# Altium integrated library Avago LED Display 7-Segment, 2-Digit.IntLib: 57 symbols (part 2 of 2)
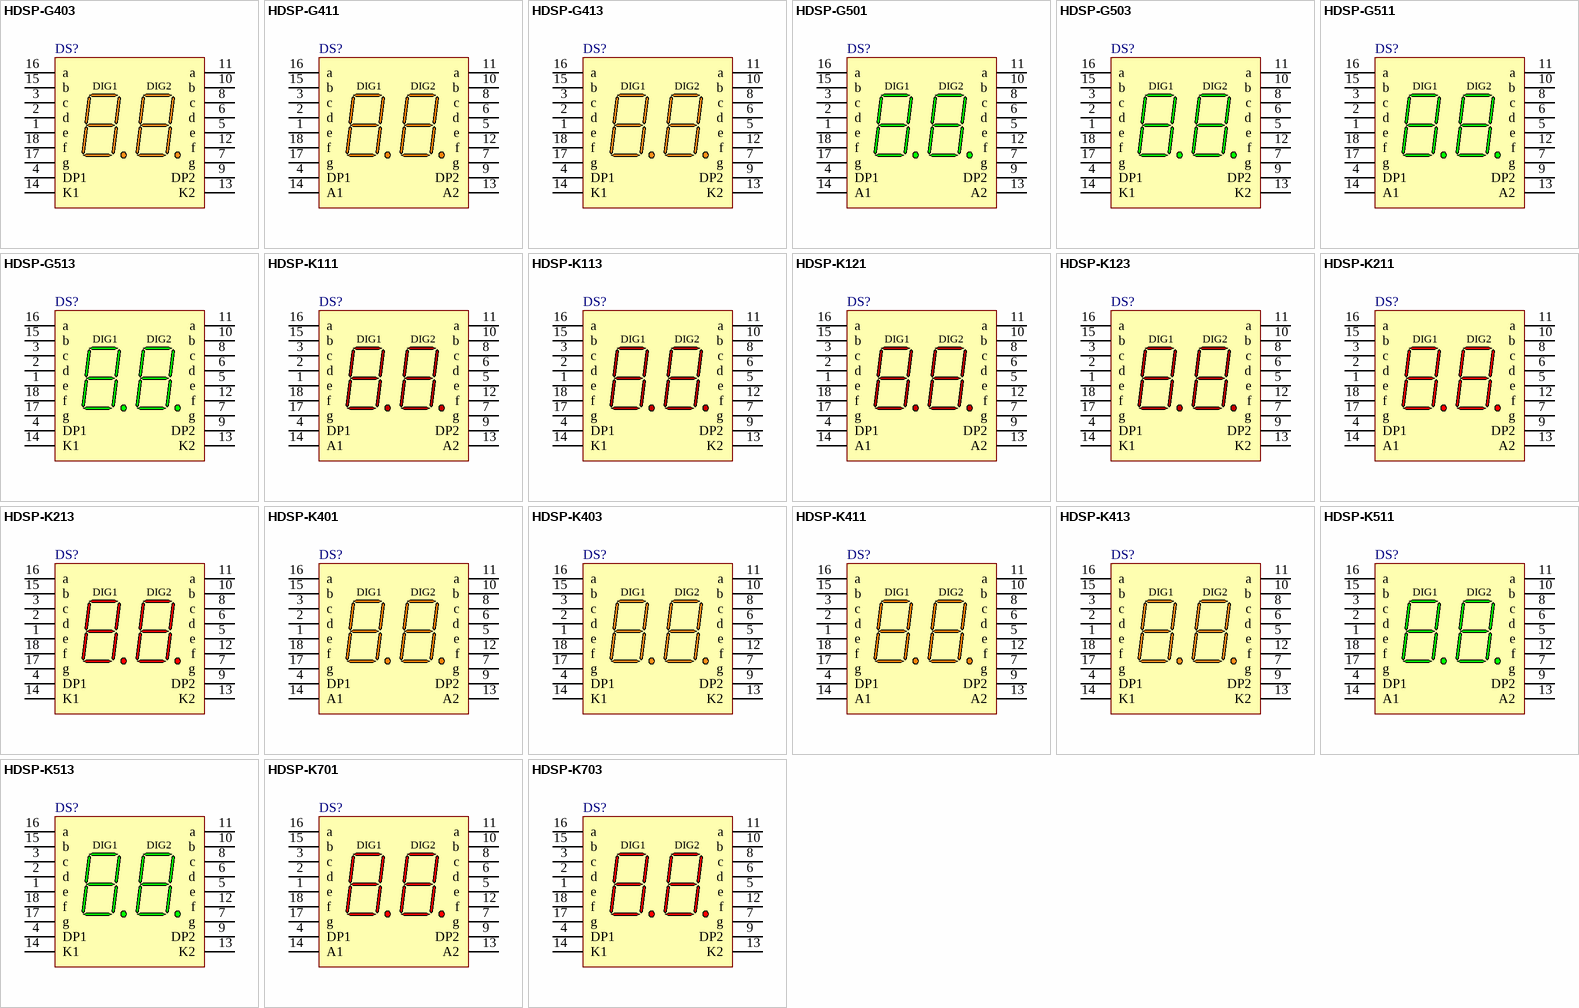
[diagram p2: symbols HDSP-G403 to HDSP-K703]

## HDSP-G503
designator DS?
10.16 mm Gray Package Green 7-Segment Display: 2-Digit, CC, RH DP; Published: 26-May-2004; LatestRevisionDate: 11-Oct-2004; LatestRevisionNote: Display outline superimposed on PCB Footprint.; DatasheetVersion: 26-Jul-2001; PackageVersion: 07-Mar-2002; PackageReference: G-18; Publisher: Altium Limited; PackageDescription: LED, 7-Segment Display, 10.16 mm, Dual Digit; 18 Leads; Row Space 15.24 mm; Pitch 2.54 mm; ComponentLink1Description: Manufacturer Link; ComponentLink1URL: http://www.avagotech.com/; ComponentLink2Description: Datasheet; ComponentLink2URL: http://cp.literature.agilent.com/litweb/pdf/5989-2346EN.pdf
footprint G-18 (LED, 7-Segment Display, 10.16 mm, Dual Digit; 18 Leads; Row Space 15.24 mm; Pitch 2.54 mm)
simulation model HDSP_G503 (SUBCKT)
pins: 1 e "Digit 1 e Anode", 2 d "Digit 1 d Anode", 3 c "Digit 1 c Anode", 4 DP1 "Digit 1 DP Anode", 5 e "Digit 2 e Anode", 6 d "Digit 2 d Anode", 7 g "Digit 2 g Anode", 8 c "Digit 2 c Anode", 9 DP2 "Digit 2 DP Anode", 10 b "Digit 2 b Anode", 11 a "Digit 2 a Anode", 12 f "Digit 2 f Anode", 13 K2 "Digit 2 Common Cathode", 14 K1 "Digit 1 Common Cathode", 15 b "Digit 1 b Anode", 16 a "Digit 1 a Anode", 17 g "Digit 1 g Anode", 18 f "Digit 1 f Anode"
text: DIG1; DIG2

## HDSP-G511
designator DS?
10.16 mm Black Surface Green 7-Segment Display: 2-Digit, CA, RH DP; Published: 26-May-2004; LatestRevisionDate: 11-Oct-2004; LatestRevisionNote: Display outline superimposed on PCB Footprint.; DatasheetVersion: 19-Feb-2002; PackageVersion: 07-Mar-2002; PackageReference: G-18; Publisher: Altium Limited; PackageDescription: LED, 7-Segment Display, 10.16 mm, Dual Digit; 18 Leads; Row Space 15.24 mm; Pitch 2.54 mm; ComponentLink1Description: Manufacturer Link; ComponentLink1URL: http://www.avagotech.com/; ComponentLink2Description: Datasheet; ComponentLink2URL: http://cp.literature.agilent.com/litweb/pdf/5989-2795EN.pdf
footprint G-18 (LED, 7-Segment Display, 10.16 mm, Dual Digit; 18 Leads; Row Space 15.24 mm; Pitch 2.54 mm)
simulation model HDSP_G511 (SUBCKT)
pins: 1 e "Digit 1 e Cathode", 2 d "Digit 1 d Cathode", 3 c "Digit 1 c Cathode", 4 DP1 "Digit 1 DP Cathode", 5 e "Digit 2 e Cathode", 6 d "Digit 2 d Cathode", 7 g "Digit 2 g Cathode", 8 c "Digit 2 c Cathode", 9 DP2 "Digit 2 DP Cathode", 10 b "Digit 2 b Cathode", 11 a "Digit 2 a Cathode", 12 f "Digit 2 f Cathode", 13 A2 "Digit 2 Common Anode", 14 A1 "Digit 1 Common Anode", 15 b "Digit 1 b Cathode", 16 a "Digit 1 a Cathode", 17 g "Digit 1 g Cathode", 18 f "Digit 1 f Cathode"
text: DIG1; DIG2

## HDSP-G513
designator DS?
10.16 mm Black Surface Green 7-Segment Display: 2-Digit, CC, RH DP; Published: 26-May-2004; LatestRevisionDate: 11-Oct-2004; LatestRevisionNote: Display outline superimposed on PCB Footprint.; DatasheetVersion: 19-Feb-2002; PackageVersion: 07-Mar-2002; PackageReference: G-18; Publisher: Altium Limited; PackageDescription: LED, 7-Segment Display, 10.16 mm, Dual Digit; 18 Leads; Row Space 15.24 mm; Pitch 2.54 mm; ComponentLink1Description: Manufacturer Link; ComponentLink1URL: http://www.avagotech.com/; ComponentLink2Description: Datasheet; ComponentLink2URL: http://cp.literature.agilent.com/litweb/pdf/5989-2795EN.pdf
footprint G-18 (LED, 7-Segment Display, 10.16 mm, Dual Digit; 18 Leads; Row Space 15.24 mm; Pitch 2.54 mm)
simulation model HDSP_G513 (SUBCKT)
pins: 1 e "Digit 1 e Anode", 2 d "Digit 1 d Anode", 3 c "Digit 1 c Anode", 4 DP1 "Digit 1 DP Anode", 5 e "Digit 2 e Anode", 6 d "Digit 2 d Anode", 7 g "Digit 2 g Anode", 8 c "Digit 2 c Anode", 9 DP2 "Digit 2 DP Anode", 10 b "Digit 2 b Anode", 11 a "Digit 2 a Anode", 12 f "Digit 2 f Anode", 13 K2 "Digit 2 Common Cathode", 14 K1 "Digit 1 Common Cathode", 15 b "Digit 1 b Anode", 16 a "Digit 1 a Anode", 17 g "Digit 1 g Anode", 18 f "Digit 1 f Anode"
text: DIG1; DIG2

## HDSP-K111
designator DS?
14.22 mm Black Surface AlGaAs Red 7-Segment Display: 2-Digit, CA, RH DP; Published: 26-May-2004; LatestRevisionDate: 11-Oct-2004; LatestRevisionNote: Display outline superimposed on PCB Footprint.; DatasheetVersion: 19-Feb-2002; PackageVersion: 19-Feb-2002; PackageReference: K; Publisher: Altium Limited; PackageDescription: LED, 7-Segment Display, 14.22 mm, Dual Digit; 18 Leads; Row Space 15.24 mm; Pitch 2.54 mm; ComponentLink1Description: Manufacturer Link; ComponentLink1URL: http://www.avagotech.com/; ComponentLink2Description: Datasheet; ComponentLink2URL: http://cp.literature.agilent.com/litweb/pdf/5989-2795EN.pdf
footprint K (LED, 7-Segment Display, 14.22 mm, Dual Digit; 18 Leads; Row Space 15.24 mm; Pitch 2.54 mm)
simulation model HDSP_K111 (SUBCKT)
pins: 1 e "Digit 1 e Cathode", 2 d "Digit 1 d Cathode", 3 c "Digit 1 c Cathode", 4 DP1 "Digit 1 DP Cathode", 5 e "Digit 2 e Cathode", 6 d "Digit 2 d Cathode", 7 g "Digit 2 g Cathode", 8 c "Digit 2 c Cathode", 9 DP2 "Digit 2 DP Cathode", 10 b "Digit 2 b Cathode", 11 a "Digit 2 a Cathode", 12 f "Digit 2 f Cathode", 13 A2 "Digit 2  Common Anode", 14 A1 "Digit 1 Common Anode", 15 b "Digit 1 b Cathode", 16 a "Digit 1 a Cathode", 17 g "Digit 1 g Cathode", 18 f "Digit 1 f Cathode"
text: DIG1; DIG2

## HDSP-K113
designator DS?
14.22 mm Black Surface AlGaAs Red 7-Segment Display: 2-Digit, CC, RH DP; Published: 26-May-2004; LatestRevisionDate: 11-Oct-2004; LatestRevisionNote: Display outline superimposed on PCB Footprint.; DatasheetVersion: 19-Feb-2002; PackageVersion: 19-Feb-2002; PackageReference: K; Publisher: Altium Limited; PackageDescription: LED, 7-Segment Display, 14.22 mm, Dual Digit; 18 Leads; Row Space 15.24 mm; Pitch 2.54 mm; ComponentLink1Description: Manufacturer Link; ComponentLink1URL: http://www.avagotech.com/; ComponentLink2Description: Datasheet; ComponentLink2URL: http://cp.literature.agilent.com/litweb/pdf/5989-2795EN.pdf
footprint K (LED, 7-Segment Display, 14.22 mm, Dual Digit; 18 Leads; Row Space 15.24 mm; Pitch 2.54 mm)
simulation model HDSP_K113 (SUBCKT)
pins: 1 e "Digit 1 e Anode", 2 d "Digit 1 d Anode", 3 c "Digit 1 c Anode", 4 DP1 "Digit 1 DP Anode", 5 e "Digit 2 e Anode", 6 d "Digit 2 d Anode", 7 g "Digit 2 g Anode", 8 c "Digit 2 c Anode", 9 DP2 "Digit 2 DP Anode", 10 b "Digit 2 b Anode", 11 a "Digit 2 a Anode", 12 f "Digit 2 f Anode", 13 K2 "Digit 2 Common Cathode", 14 K1 "Digit 1 Common Cathode", 15 b "Digit 1 b Anode", 16 a "Digit 1 a Anode", 17 g "Digit 1 g Anode", 18 f "Digit 1 f Anode"
text: DIG1; DIG2

## HDSP-K121
designator DS?
14.22 mm Low Current AlGaAs 7-Segment Display: 2-Digit, CA, RH DP; Published: 26-May-2004; LatestRevisionDate: 11-Oct-2004; LatestRevisionNote: Display outline superimposed on PCB Footprint.; DatasheetVersion: 11-Mar-2003; PackageVersion: 19-Feb-2002; PackageReference: K; Publisher: Altium Limited; PackageDescription: LED, 7-Segment Display, 14.22 mm, Dual Digit; 18 Leads; Row Space 15.24 mm; Pitch 2.54 mm; ComponentLink1Description: Manufacturer Link; ComponentLink1URL: http://www.avagotech.com/; ComponentLink2Description: Datasheet; ComponentLink2URL: http://cp.literature.agilent.com/litweb/pdf/5989-2824EN.pdf
footprint K (LED, 7-Segment Display, 14.22 mm, Dual Digit; 18 Leads; Row Space 15.24 mm; Pitch 2.54 mm)
simulation model HDSP_K121 (SUBCKT)
pins: 1 e "Digit 1 e Cathode", 2 d "Digit 1 d Cathode", 3 c "Digit 1 c Cathode", 4 DP1 "Digit 1 DP Cathode", 5 e "Digit 2 e Cathode", 6 d "Digit 2 d Cathode", 7 g "Digit 2 g Cathode", 8 c "Digit 2 c Cathode", 9 DP2 "Digit 2 DP Cathode", 10 b "Digit 2 b Cathode", 11 a "Digit 2 a Cathode", 12 f "Digit 2 f Cathode", 13 A2 "Digit 2 Common Anode", 14 A1 "Digit 1 Common Anode", 15 b "Digit 1 b Cathode", 16 a "Digit 1 a Cathode", 17 g "Digit 1 g Cathode", 18 f "Digit 1 f Cathode"
text: DIG1; DIG2

## HDSP-K123
designator DS?
14.22 mm Low Current AlGaAs 7-Segment Display: 2-Digit, CC, RH DP; Published: 26-May-2004; LatestRevisionDate: 11-Oct-2004; LatestRevisionNote: Display outline superimposed on PCB Footprint.; DatasheetVersion: 11-Mar-2003; PackageVersion: 19-Feb-2002; PackageReference: K; Publisher: Altium Limited; PackageDescription: LED, 7-Segment Display, 14.22 mm, Dual Digit; 18 Leads; Row Space 15.24 mm; Pitch 2.54 mm; ComponentLink1Description: Manufacturer Link; ComponentLink1URL: http://www.avagotech.com/; ComponentLink2Description: Datasheet; ComponentLink2URL: http://cp.literature.agilent.com/litweb/pdf/5989-2824EN.pdf
footprint K (LED, 7-Segment Display, 14.22 mm, Dual Digit; 18 Leads; Row Space 15.24 mm; Pitch 2.54 mm)
simulation model HDSP_K123 (SUBCKT)
pins: 1 e "Digit 1 e Anode", 2 d "Digit 1 d Anode", 3 c "Digit 1 c Anode", 4 DP1 "Digit 1 DP Anode", 5 e "Digit 2 e Anode", 6 d "Digit 2 d Anode", 7 g "Digit 2 g Anode", 8 c "Digit 2 c Anode", 9 DP2 "Digit 2 DP Anode", 10 b "Digit 2 b Anode", 11 a "Digit 2 a Anode", 12 f "Digit 2 f Anode", 13 K2 "Digit 2 Common Cathode", 14 K1 "Digit 1 Common Cathode", 15 b "Digit 1 b Anode", 16 a "Digit 1 a Anode", 17 g "Digit 1 g Anode", 18 f "Digit 1 f Anode"
text: DIG1; DIG2

## HDSP-K211
designator DS?
14.22 mm Black Surface HER 7-Segment Display: 2-Digit, CA, RH DP; Published: 26-May-2004; LatestRevisionDate: 11-Oct-2004; LatestRevisionNote: Display outline superimposed on PCB Footprint.; DatasheetVersion: 19-Feb-2002; PackageVersion: 19-Feb-2002; PackageReference: K; Publisher: Altium Limited; PackageDescription: LED, 7-Segment Display, 14.22 mm, Dual Digit; 18 Leads; Row Space 15.24 mm; Pitch 2.54 mm; ComponentLink1Description: Manufacturer Link; ComponentLink1URL: http://www.avagotech.com/; ComponentLink2Description: Datasheet; ComponentLink2URL: http://cp.literature.agilent.com/litweb/pdf/5989-2795EN.pdf
footprint K (LED, 7-Segment Display, 14.22 mm, Dual Digit; 18 Leads; Row Space 15.24 mm; Pitch 2.54 mm)
simulation model HDSP_K211 (SUBCKT)
pins: 1 e "Digit 1 e Cathode", 2 d "Digit 1 d Cathode", 3 c "Digit 1 c Cathode", 4 DP1 "Digit 1 DP Cathode", 5 e "Digit 2 e Cathode", 6 d "Digit 2 d Cathode", 7 g "Digit 2 g Cathode", 8 c "Digit 2 c Cathode", 9 DP2 "Digit 2 DP Cathode", 10 b "Digit 2 b Cathode", 11 a "Digit 2 a Cathode", 12 f "Digit 2 f Cathode", 13 A2 "Digit 2  Common Anode", 14 A1 "Digit 1 Common Anode", 15 b "Digit 1 b Cathode", 16 a "Digit 1 a Cathode", 17 g "Digit 1 g Cathode", 18 f "Digit 1 f Cathode"
text: DIG1; DIG2

## HDSP-K213
designator DS?
14.22 mm Black Surface HER 7-Segment Display: 2-Digit, CC, RH DP; Published: 26-May-2004; LatestRevisionDate: 11-Oct-2004; LatestRevisionNote: Display outline superimposed on PCB Footprint.; DatasheetVersion: 19-Feb-2002; PackageVersion: 19-Feb-2002; PackageReference: K; Publisher: Altium Limited; PackageDescription: LED, 7-Segment Display, 14.22 mm, Dual Digit; 18 Leads; Row Space 15.24 mm; Pitch 2.54 mm; ComponentLink1Description: Manufacturer Link; ComponentLink1URL: http://www.avagotech.com/; ComponentLink2Description: Datasheet; ComponentLink2URL: http://cp.literature.agilent.com/litweb/pdf/5989-2795EN.pdf
footprint K (LED, 7-Segment Display, 14.22 mm, Dual Digit; 18 Leads; Row Space 15.24 mm; Pitch 2.54 mm)
simulation model HDSP_K213 (SUBCKT)
pins: 1 e "Digit 1 e Anode", 2 d "Digit 1 d Anode", 3 c "Digit 1 c Anode", 4 DP1 "Digit 1 DP Anode", 5 e "Digit 2 e Anode", 6 d "Digit 2 d Anode", 7 g "Digit 2 g Anode", 8 c "Digit 2 c Anode", 9 DP2 "Digit 2 DP Anode", 10 b "Digit 2 b Anode", 11 a "Digit 2 a Anode", 12 f "Digit 2 f Anode", 13 K2 "Digit 2 Common Cathode", 14 K1 "Digit 1 Common Cathode", 15 b "Digit 1 b Anode", 16 a "Digit 1 a Anode", 17 g "Digit 1 g Anode", 18 f "Digit 1 f Anode"
text: DIG1; DIG2

## HDSP-K401
designator DS?
14.22 mm Gray Surface Orange 7-Segment Display: 2-Digit, CA, RH DP; Published: 26-May-2004; LatestRevisionDate: 11-Oct-2004; LatestRevisionNote: Display outline superimposed on PCB Footprint.; DatasheetVersion: 17-Jan-2002; PackageVersion: 19-Feb-2002; PackageReference: K; Publisher: Altium Limited; PackageDescription: LED, 7-Segment Display, 14.22 mm, Dual Digit; 18 Leads; Row Space 15.24 mm; Pitch 2.54 mm; ComponentLink1Description: Manufacturer Link; ComponentLink1URL: http://www.avagotech.com/; ComponentLink2Description: Datasheet; ComponentLink2URL: http://cp.literature.agilent.com/litweb/pdf/5988-4273EN.pdf
footprint K (LED, 7-Segment Display, 14.22 mm, Dual Digit; 18 Leads; Row Space 15.24 mm; Pitch 2.54 mm)
simulation model HDSP_K401 (SUBCKT)
pins: 1 e "Digit 1 e Cathode", 2 d "Digit 1 d Cathode", 3 c "Digit 1 c Cathode", 4 DP1 "Digit 1 DP Cathode", 5 e "Digit 2 e Cathode", 6 d "Digit 2 d Cathode", 7 g "Digit 2 g Cathode", 8 c "Digit 2 c Cathode", 9 DP2 "Digit 2 DP Cathode", 10 b "Digit 2 b Cathode", 11 a "Digit 2 a Cathode", 12 f "Digit 2 f Cathode", 13 A2 "Digit 2  Common Anode", 14 A1 "Digit 1 Common Anode", 15 b "Digit 1 b Cathode", 16 a "Digit 1 a Cathode", 17 g "Digit 1 g Cathode", 18 f "Digit 1 f Cathode"
text: DIG1; DIG2

## HDSP-K403
designator DS?
14.22 mm Gray Surface Orange 7-Segment Display: 2-Digit, CC, RH DP; Published: 26-May-2004; LatestRevisionDate: 11-Oct-2004; LatestRevisionNote: Display outline superimposed on PCB Footprint.; DatasheetVersion: 17-Jan-2002; PackageVersion: 19-Feb-2002; PackageReference: K; Publisher: Altium Limited; PackageDescription: LED, 7-Segment Display, 14.22 mm, Dual Digit; 18 Leads; Row Space 15.24 mm; Pitch 2.54 mm; ComponentLink1Description: Manufacturer Link; ComponentLink1URL: http://www.avagotech.com/; ComponentLink2Description: Datasheet; ComponentLink2URL: http://cp.literature.agilent.com/litweb/pdf/5988-4273EN.pdf
footprint K (LED, 7-Segment Display, 14.22 mm, Dual Digit; 18 Leads; Row Space 15.24 mm; Pitch 2.54 mm)
simulation model HDSP_K403 (SUBCKT)
pins: 1 e "Digit 1 e Anode", 2 d "Digit 1 d Anode", 3 c "Digit 1 c Anode", 4 DP1 "Digit 1 DP Anode", 5 e "Digit 2 e Anode", 6 d "Digit 2 d Anode", 7 g "Digit 2 g Anode", 8 c "Digit 2 c Anode", 9 DP2 "Digit 2 DP Anode", 10 b "Digit 2 b Anode", 11 a "Digit 2 a Anode", 12 f "Digit 2 f Anode", 13 K2 "Digit 2 Common Cathode", 14 K1 "Digit 1 Common Cathode", 15 b "Digit 1 b Anode", 16 a "Digit 1 a Anode", 17 g "Digit 1 g Anode", 18 f "Digit 1 f Anode"
text: DIG1; DIG2

## HDSP-K411
designator DS?
14.22 mm Black Surface Orange 7-Segment Display: 2-Digit, CA, RH DP; Published: 26-May-2004; LatestRevisionDate: 11-Oct-2004; LatestRevisionNote: Display outline superimposed on PCB Footprint.; DatasheetVersion: 19-Feb-2002; PackageVersion: 19-Feb-2002; PackageReference: K; Publisher: Altium Limited; PackageDescription: LED, 7-Segment Display, 14.22 mm, Dual Digit; 18 Leads; Row Space 15.24 mm; Pitch 2.54 mm; ComponentLink1Description: Manufacturer Link; ComponentLink1URL: http://www.avagotech.com/; ComponentLink2Description: Datasheet; ComponentLink2URL: http://cp.literature.agilent.com/litweb/pdf/5989-2795EN.pdf
footprint K (LED, 7-Segment Display, 14.22 mm, Dual Digit; 18 Leads; Row Space 15.24 mm; Pitch 2.54 mm)
simulation model HDSP_K211 (SUBCKT)
pins: 1 e "Digit 1 e Cathode", 2 d "Digit 1 d Cathode", 3 c "Digit 1 c Cathode", 4 DP1 "Digit 1 DP Cathode", 5 e "Digit 2 e Cathode", 6 d "Digit 2 d Cathode", 7 g "Digit 2 g Cathode", 8 c "Digit 2 c Cathode", 9 DP2 "Digit 2 DP Cathode", 10 b "Digit 2 b Cathode", 11 a "Digit 2 a Cathode", 12 f "Digit 2 f Cathode", 13 A2 "Digit 2  Common Anode", 14 A1 "Digit 1 Common Anode", 15 b "Digit 1 b Cathode", 16 a "Digit 1 a Cathode", 17 g "Digit 1 g Cathode", 18 f "Digit 1 f Cathode"
text: DIG1; DIG2

## HDSP-K413
designator DS?
14.22 mm Black Surface Orange 7-Segment Display: 2-Digit, CC, RH DP; Published: 26-May-2004; LatestRevisionDate: 11-Oct-2004; LatestRevisionNote: Display outline superimposed on PCB Footprint.; DatasheetVersion: 19-Feb-2002; PackageVersion: 19-Feb-2002; PackageReference: K; Publisher: Altium Limited; PackageDescription: LED, 7-Segment Display, 14.22 mm, Dual Digit; 18 Leads; Row Space 15.24 mm; Pitch 2.54 mm; ComponentLink1Description: Manufacturer Link; ComponentLink1URL: http://www.avagotech.com/; ComponentLink2Description: Datasheet; ComponentLink2URL: http://cp.literature.agilent.com/litweb/pdf/5989-2795EN.pdf
footprint K (LED, 7-Segment Display, 14.22 mm, Dual Digit; 18 Leads; Row Space 15.24 mm; Pitch 2.54 mm)
simulation model HDSP_K213 (SUBCKT)
pins: 1 e "Digit 1 e Anode", 2 d "Digit 1 d Anode", 3 c "Digit 1 c Anode", 4 DP1 "Digit 1 DP Anode", 5 e "Digit 2 e Anode", 6 d "Digit 2 d Anode", 7 g "Digit 2 g Anode", 8 c "Digit 2 c Anode", 9 DP2 "Digit 2 DP Anode", 10 b "Digit 2 b Anode", 11 a "Digit 2 a Anode", 12 f "Digit 2 f Anode", 13 K2 "Digit 2 Common Cathode", 14 K1 "Digit 1 Common Cathode", 15 b "Digit 1 b Anode", 16 a "Digit 1 a Anode", 17 g "Digit 1 g Anode", 18 f "Digit 1 f Anode"
text: DIG1; DIG2

## HDSP-K511
designator DS?
14.22 mm Black Surface Green 7-Segment Display: 2-Digit, CA, RH DP; Published: 26-May-2004; LatestRevisionDate: 11-Oct-2004; LatestRevisionNote: Display outline superimposed on PCB Footprint.; DatasheetVersion: 19-Feb-2002; PackageVersion: 19-Feb-2002; PackageReference: K; Publisher: Altium Limited; PackageDescription: LED, 7-Segment Display, 14.22 mm, Dual Digit; 18 Leads; Row Space 15.24 mm; Pitch 2.54 mm; ComponentLink1Description: Manufacturer Link; ComponentLink1URL: http://www.avagotech.com/; ComponentLink2Description: Datasheet; ComponentLink2URL: http://cp.literature.agilent.com/litweb/pdf/5989-2795EN.pdf
footprint K (LED, 7-Segment Display, 14.22 mm, Dual Digit; 18 Leads; Row Space 15.24 mm; Pitch 2.54 mm)
simulation model HDSP_K511 (SUBCKT)
pins: 1 e "Digit 1 e Cathode", 2 d "Digit 1 d Cathode", 3 c "Digit 1 c Cathode", 4 DP1 "Digit 1 DP Cathode", 5 e "Digit 2 e Cathode", 6 d "Digit 2 d Cathode", 7 g "Digit 2 g Cathode", 8 c "Digit 2 c Cathode", 9 DP2 "Digit 2 DP Cathode", 10 b "Digit 2 b Cathode", 11 a "Digit 2 a Cathode", 12 f "Digit 2 f Cathode", 13 A2 "Digit 2  Common Anode", 14 A1 "Digit 1 Common Anode", 15 b "Digit 1 b Cathode", 16 a "Digit 1 a Cathode", 17 g "Digit 1 g Cathode", 18 f "Digit 1 f Cathode"
text: DIG1; DIG2

## HDSP-K513
designator DS?
14.22 mm Black Surface Green 7-Segment Display: 2-Digit, CC, RH DP; Published: 26-May-2004; LatestRevisionDate: 11-Oct-2004; LatestRevisionNote: Display outline superimposed on PCB Footprint.; DatasheetVersion: 19-Feb-2002; PackageVersion: 19-Feb-2002; PackageReference: K; Publisher: Altium Limited; PackageDescription: LED, 7-Segment Display, 14.22 mm, Dual Digit; 18 Leads; Row Space 15.24 mm; Pitch 2.54 mm; ComponentLink1Description: Manufacturer Link; ComponentLink1URL: http://www.avagotech.com/; ComponentLink2Description: Datasheet; ComponentLink2URL: http://cp.literature.agilent.com/litweb/pdf/5989-2795EN.pdf
footprint K (LED, 7-Segment Display, 14.22 mm, Dual Digit; 18 Leads; Row Space 15.24 mm; Pitch 2.54 mm)
simulation model HDSP_K513 (SUBCKT)
pins: 1 e "Digit 1 e Anode", 2 d "Digit 1 d Anode", 3 c "Digit 1 c Anode", 4 DP1 "Digit 1 DP Anode", 5 e "Digit 2 e Anode", 6 d "Digit 2 d Anode", 7 g "Digit 2 g Anode", 8 c "Digit 2 c Anode", 9 DP2 "Digit 2 DP Anode", 10 b "Digit 2 b Anode", 11 a "Digit 2 a Anode", 12 f "Digit 2 f Anode", 13 K2 "Digit 2 Common Cathode", 14 K1 "Digit 1 Common Cathode", 15 b "Digit 1 b Anode", 16 a "Digit 1 a Anode", 17 g "Digit 1 g Anode", 18 f "Digit 1 f Anode"
text: DIG1; DIG2

## HDSP-K701
designator DS?
14.22 mm Low Current HER 7-Segment Display: 2-Digit, CA, RH DP; Published: 26-May-2004; LatestRevisionDate: 11-Oct-2004; LatestRevisionNote: Display outline superimposed on PCB Footprint.; DatasheetVersion: 11-Mar-2003; PackageVersion: 19-Feb-2002; PackageReference: K; Publisher: Altium Limited; PackageDescription: LED, 7-Segment Display, 14.22 mm, Dual Digit; 18 Leads; Row Space 15.24 mm; Pitch 2.54 mm; ComponentLink1Description: Manufacturer Link; ComponentLink1URL: http://www.avagotech.com/; ComponentLink2Description: Datasheet; ComponentLink2URL: http://cp.literature.agilent.com/litweb/pdf/5989-2824EN.pdf
footprint K (LED, 7-Segment Display, 14.22 mm, Dual Digit; 18 Leads; Row Space 15.24 mm; Pitch 2.54 mm)
simulation model HDSP_K701 (SUBCKT)
pins: 1 e "Digit 1 e Cathode", 2 d "Digit 1 d Cathode", 3 c "Digit 1 c Cathode", 4 DP1 "Digit 1 DP Cathode", 5 e "Digit 2 e Cathode", 6 d "Digit 2 d Cathode", 7 g "Digit 2 g Cathode", 8 c "Digit 2 c Cathode", 9 DP2 "Digit 2 DP Cathode", 10 b "Digit 2 b Cathode", 11 a "Digit 2 a Cathode", 12 f "Digit 2 f Cathode", 13 A2 "Digit 2 Common Anode", 14 A1 "Digit 1 Common Anode", 15 b "Digit 1 b Cathode", 16 a "Digit 1 a Cathode", 17 g "Digit 1 g Cathode", 18 f "Digit 1 f Cathode"
text: DIG1; DIG2

## HDSP-K703
designator DS?
14.22 mm Low Current HER 7-Segment Display: 2-Digit, CC, RH DP; Published: 26-May-2004; LatestRevisionDate: 11-Oct-2004; LatestRevisionNote: Display outline superimposed on PCB Footprint.; DatasheetVersion: 11-Mar-2003; PackageVersion: 19-Feb-2002; PackageReference: K; Publisher: Altium Limited; PackageDescription: LED, 7-Segment Display, 14.22 mm, Dual Digit; 18 Leads; Row Space 15.24 mm; Pitch 2.54 mm; ComponentLink1Description: Manufacturer Link; ComponentLink1URL: http://www.avagotech.com/; ComponentLink2Description: Datasheet; ComponentLink2URL: http://cp.literature.agilent.com/litweb/pdf/5989-2824EN.pdf
footprint K (LED, 7-Segment Display, 14.22 mm, Dual Digit; 18 Leads; Row Space 15.24 mm; Pitch 2.54 mm)
simulation model HDSP_K703 (SUBCKT)
pins: 1 e "Digit 1 e Anode", 2 d "Digit 1 d Anode", 3 c "Digit 1 c Anode", 4 DP1 "Digit 1 DP Anode", 5 e "Digit 2 e Anode", 6 d "Digit 2 d Anode", 7 g "Digit 2 g Anode", 8 c "Digit 2 c Anode", 9 DP2 "Digit 2 DP Anode", 10 b "Digit 2 b Anode", 11 a "Digit 2 a Anode", 12 f "Digit 2 f Anode", 13 K2 "Digit 2 Common Cathode", 14 K1 "Digit 1 Common Cathode", 15 b "Digit 1 b Anode", 16 a "Digit 1 a Anode", 17 g "Digit 1 g Anode", 18 f "Digit 1 f Anode"
text: DIG1; DIG2